# Altium footprint library SMD-Packages.PcbLib: 34 footprints (part 2 of 3)
Each footprint in its own frame and in the unit in brackets; x right, y up, seen from the top. Pads: shape width x height; smd on the part's side, far side on the other; paste and mask are expansions set on the pad; w line width, h text height; cw(c..) or ccw(c..) is an arc to the next point about the centre after c.
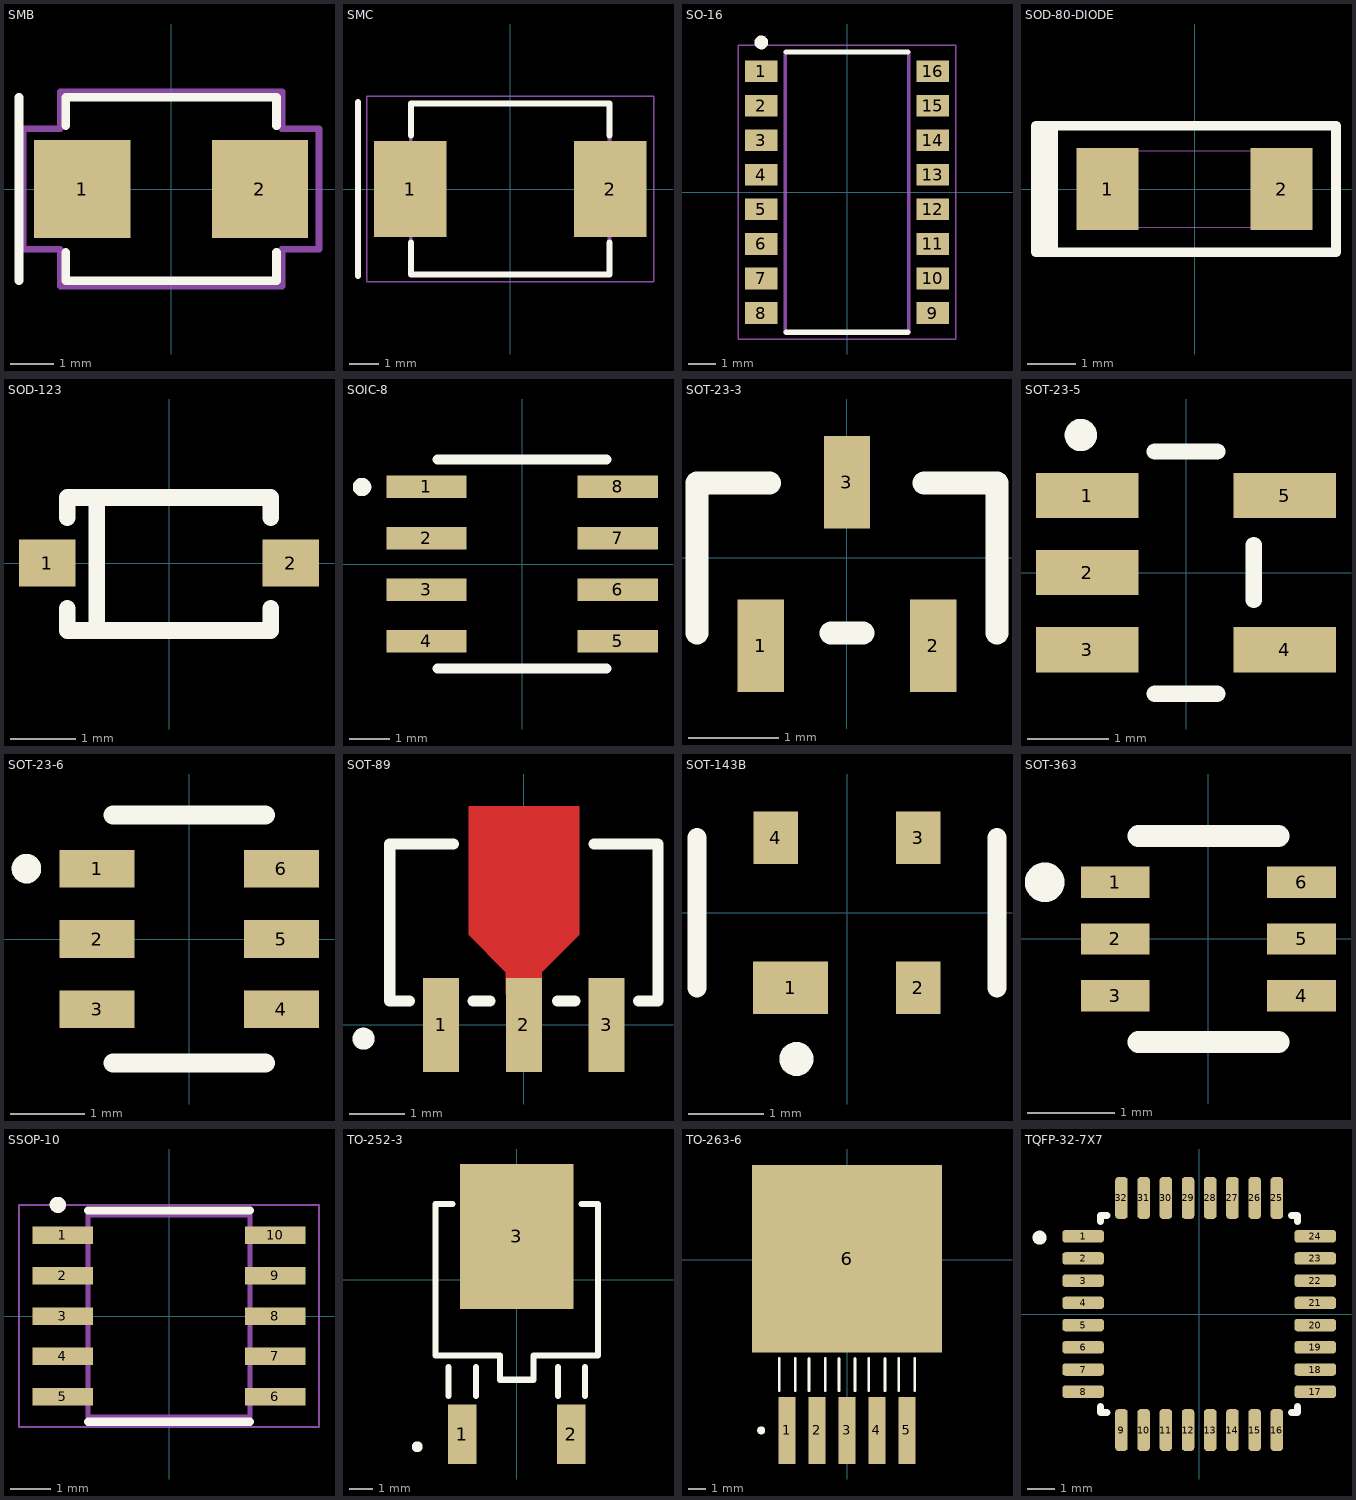
[diagram p1: the footprints below, top view; thin cyan lines are the x and y axes]

## SMB [mil]
pads (2):
  rect 87x89 smd paste+0: 1(-80.5,0) 2(80.5,0)
Top Overlay:
  lines w7.87: -137.8,-82.99 -137.8,82.99 ; -95.5,-57.6 -95.5,-83 95.5,-83 95.5,-57.6 ; -95.5,57.6 -95.5,83 95.5,83 95.5,57.6
Mechanical 15:
  lines w6: -134,-54.5 -134,54.5 -100.5,54.5 -100.5,88 100.5,88 100.5,54.5 134,54.5 134,-54.5 100.5,-54.5 100.5,-88 -100.5,-88 -100.5,-54.5 -134,-54.5
3D body "STPS2200U.STEP": height 104.33, standoff 0, extent -105.31,-71.36 105.31,71.36

## SMC [mm]
pads (2):
  rect 2.5x3.3 smd: 1(-3.45,0) 2(3.45,0)
Top Overlay:
  lines w0.2: -5.25,-3 -5.25,3 ; -3.425,-1.85 -3.425,-2.95 3.425,-2.95 3.425,-1.85 ; -3.425,1.85 -3.425,2.95 3.425,2.95 3.425,1.85
Mechanical 13:
  lines w0.127: -3.425,-2.95 -3.425,2.95 3.425,2.95 3.425,-2.95 -3.425,-2.95
Mechanical 15:
  lines w0.05: -4.95,-3.2 -4.95,3.2 4.95,3.2 4.95,-3.2 -4.95,-3.2
3D body "step_temp.STEP": height 2.5, standoff 0, extent -3.97,-2.953 3.97,2.953

## SO-16 [mm]
height 2.3
pads (16):
  rect 1.2x0.8 smd: 1(-3.15,4.445) 2(-3.15,3.175) 3(-3.15,1.905) 4(-3.15,0.635) 5(-3.15,-0.635) 6(-3.15,-1.905) 7(-3.15,-3.175) 8(-3.15,-4.445) 9(3.15,-4.445) 10(3.15,-3.175) 11(3.15,-1.905) 12(3.15,-0.635) 13(3.15,0.635) 14(3.15,1.905) 15(3.15,3.175) 16(3.15,4.445)
Top Overlay:
  circle w0.254: c-3.15,5.5 r0.127
  lines w0.2: -2.23,-5.15 2.23,-5.15 ; -2.23,5.15 2.23,5.15
Mechanical 13:
  circle w0.2: c-3.15,5.5 r0.1
  lines w0.127: -2.275,-5.15 2.275,-5.15 2.275,5.15 -2.275,5.15 -2.275,-5.15
Mechanical 15:
  lines w0.05: -4,-5.4 4,-5.4 4,5.4 -4,5.4 -4,-5.4
3D body "TLP293-4_TP_E.step": height 2.3, standoff 0, extent -3.5,-5.15 3.5,5.15

## SOD-80-DIODE [mil]
pads (2):
  rect 51x67 smd paste+0 mask+3.94: 1(-71.5,0) 2(71.5,0)
Top Overlay:
  rectangle: -129.92,-50.2 -112.2,49.21
  lines w7.87: -130.31,-51.97 -130.31,51.97 116.14,51.97 116.14,-51.97 -130.31,-51.97
Mechanical 13:
  lines w1: -73,-15.75 -57.25,-31.5 ; -73,15.75 -57.25,31.5 ; -73,-31.5 73,-31.5 73,31.5 -73,31.5 -73,-31.5
3D body "SOD-80 MiniMELF.stp": height 61.58, standoff -0.95, extent -72.83,-31.49 72.83,31.49

## SOD-123 [mil]
pads (2):
  rect 34x28 smd paste+0 mask+0: 1(-73,0) 2(73,0)
Top Overlay:
  lines w10: -61,-27.1 -61,-40.5 61,-40.5 61,-27.1 ; -61,27.1 -61,39.37 61,39.37 61,27.1 ; -43.31,-38.39 -43.31,37.4
3D body "1N4148W-MOD.STEP": height 59.92, standoff -0.44, extent -71.85,-30.51 71.85,30.51

## SOIC-8 [mil]
pads (8):
  rect 78x22 smd paste+0 mask+0: 1(-93,75) 2(-93,25) 3(-93,-25) 4(-93,-75) 5(93,-75) 6(93,-25) 7(93,25) 8(93,75)
Top Overlay:
  circle w10: c-155.51,74.8 r3.94
  lines w10: -82,-101.5 82,-101.5 ; -82,101.5 82,101.5
3D body "User Library-so8-3.step": height 66.93, standoff 0, extent -118.11,-96.46 118.11,96.46

## SOT-23-3 [mil]
pads (3):
  rect 20x40 smd mask+3.94: 1(-37.4,-38) 2(37.4,-38) 3(0,32.75)
Top Overlay:
  lines w10: -65,-32.5 -65,32.5 -33.5,32.5 ; -6.89,-32.5 6.89,-32.5 ; 33.46,32.48 64.96,32.48 ; 65,-32.5 65,32.5
3D body "LM4040DIM3-2.5_NOPB.step": height 44.09, standoff 0, extent -57.48,-46.65 57.48,46.65

## SOT-23-5 [mil]
pads (5):
  rect 50x22 smd mask+1.97: 1(-48,37.5) 2(-48,0) 3(-48,-37.5) 4(48,-37.5) 5(48,37.5)
Top Overlay:
  circle w7.87: c-51.18,66.93 r3.94
  lines w7.87: -15.17,-59 15.17,-59 ; -15.17,59 15.17,59 ; 33,-13.4 33,13.4
3D body "LM3671MFX-3.3_NOPB.step": height 57.09, standoff 0, extent -55.12,-57.09 55.12,57.09

## SOT-23-6 [mil]
pads (6):
  rect 40x20 smd paste+0: 1(-49,37.4) 2(-49,0) 3(-49,-37.4) 4(49,-37.4) 5(49,0) 6(49,37.4)
Top Overlay:
  circle w7.87: c-86.61,37.4 r3.94
  lines w10: -40.5,-66 40.5,-66 ; -40.5,66 40.5,66
3D body "SOT23-6.step": height 43.31, standoff 0, extent -49.21,-59.06 49.21,59.06

## SOT-89 [mm]
pads (3):
  rect 0.65x1.7 smd paste+0: 1(-1.495,0) 2(0,0) 3(1.495,0)
Top Layer:
  region: 0.325,0.555 -0.325,0.555 -0.325,0.956 -1,1.631 -1,3.956 1,3.956 1,1.631 0.325,0.956
Top Overlay:
  circle w0.2: c-2.9,-0.25 r0.1
  lines w0.2: -2.069,0.428 -2.426,0.428 -2.426,3.272 -1.273,3.272 ; -0.921,0.428 -0.612,0.428 ; 0.612,0.428 0.921,0.428 ; 1.273,3.272 2.426,3.272 2.426,0.428 2.069,0.428
Top Paste:
  region: 0.325,0.555 -0.325,0.555 -0.325,0.956 -1,1.631 -1,3.956 1,3.956 1,1.631 0.325,0.956
Top Solder:
  region: 0.279,0.555 -0.279,0.555 -0.279,0.91 -0.914,1.545 -0.914,3.806 0.914,3.806 0.914,1.545 0.279,0.91
3D body "SOT-89.step": height 1.35, standoff 0, extent -2.3,-0.65 2.3,3.6

## SOT-143B [mm]
pads (4):
  rect 1x0.7 smd: 1(-0.75,-1)
  rect 0.6x0.7 smd: 2(0.95,-1) 3(0.95,1) 4(-0.95,1)
Top Overlay:
  circle w0.254: c-0.675,-1.95 r0.1
  lines w0.254: -2,-1 -2,1 ; 2,-1 2,1
Top Paste:
  region: -0.7,0.701 -1.202,0.701 -1.202,1.3 -0.7,1.3
  region: 1.2,0.701 0.701,0.701 0.701,1.3 1.2,1.3
  region: 1.2,-1.301 0.701,-1.301 0.701,-0.7 1.2,-0.7
  region: -0.3,-1.302 -1.202,-1.302 -1.202,-0.7 -0.3,-0.7
3D body "PRTR5V0U2X_215.step": height 1.1, standoff 0, extent -1.45,-1.15 1.45,1.15

## SOT-363 [mil]
pads (6):
  rect 31x14 smd paste+0 mask+0: 1(-42,25.59) 2(-42,0) 3(-42,-25.59) 4(42,-25.59) 5(42,0) 6(42,25.59)
Top Overlay:
  circle w10: c-73.82,25.59 r3.94
  lines w10: -31.5,-46.5 31.5,-46.5 ; -31.5,46.5 31.5,46.5
3D body "UMH3NFHATN.step": height 39.37, standoff 0, extent -41.34,-39.37 41.34,39.37

## SSOP-10 [mm]
pads (10):
  rect 1.5x0.432 smd: 1(-2.625,2) 2(-2.625,1) 3(-2.625,0) 4(-2.625,-1) 5(-2.625,-2) 6(2.625,-2) 7(2.625,-1) 8(2.625,0) 9(2.625,1) 10(2.625,2)
Top Overlay:
  circle w0.2: c-2.75,2.75 r0.1
  lines w0.2: -2,-2.614 2,-2.614 ; -2,2.614 2,2.614
Mechanical 13:
  circle w0.2: c-2.75,2.75 r0.1
  lines w0.127: -2,-2.5 2,-2.5 2,2.5 -2,2.5 -2,-2.5
Mechanical 15:
  lines w0.05: -3.71,-2.75 3.71,-2.75 3.71,2.75 -3.71,2.75 -3.71,-2.75
3D body "User Library-ssop10.step": height 1.55, standoff -0.01, extent -3,-2.45 3,2.45

## TO-252-3 [mil]
pads (3):
  rect 47x98 smd paste+0 mask+0: 1(-90,-255) 2(90,-255)
  rect 187x239 smd paste+0 mask+0: 3(0,71.5)
Top Overlay:
  circle w10: c-164.37,-275.59 r3.94
  lines w10: -112.5,-192 -112.5,-144 ; -106.6,125 -134,125 -134,-125 -27.5,-125 -27.5,-165 27.5,-165 27.5,-125 134,-125 134,125 106.6,125 ; -67.5,-192 -67.5,-144 ; 67.5,-192 67.5,-144 ; 112.5,-192 112.5,-144
3D body "TO252-DPAK.STP": height 90.16, standoff -3.44, extent -129.53,-270.5 129.56,120.08

## TO-263-6 [mil]
pads (6):
  rect 38x150 smd paste+0 mask+0: 1(-133.86,-382) 2(-66.93,-382) 3(0,-382) 4(66.93,-382) 5(133.86,-382)
  rect 424x420 smd paste+0 mask+0: 6(0,2)
Top Overlay:
  circle w10: c-191.93,-381.89 r3.94
  lines w6: -151.86,-293 -151.86,-221.1 ; -115.86,-293 -115.86,-221.1 ; -84.93,-293 -84.93,-221.1 ; -48.93,-293 -48.93,-221.1 ; -18,-293 -18,-221.1 ; 18,-293 18,-221.1 ; 48.93,-293 48.93,-221.1 ; 84.93,-293 84.93,-221.1 ; 115.86,-293 115.86,-221.1 ; 151.86,-293 151.86,-221.1
3D body "TL2575-05IKTTR.step": height 183, standoff -6, extent -200,-380.93 200,184.07

## TQFP-32-7X7 [mm]
pads (32):
  rrect50% 1.5x0.45 smd: 1(-4.18,2.8) 2(-4.18,2) 3(-4.18,1.2) 4(-4.18,0.4) 5(-4.18,-0.4) 6(-4.18,-1.2) 7(-4.18,-2) 8(-4.18,-2.8) 17(4.18,-2.8) 18(4.18,-2) 19(4.18,-1.2) 20(4.18,-0.4) 21(4.18,0.4) 22(4.18,1.2) 23(4.18,2) 24(4.18,2.8)
  rrect50% 0.45x1.5 smd: 9(-2.8,-4.18) 10(-2,-4.18) 11(-1.2,-4.18) 12(-0.4,-4.18) 13(0.4,-4.18) 14(1.2,-4.18) 15(2,-4.18) 16(2.8,-4.18) 25(2.8,4.18) 26(2,4.18) 27(1.2,4.18) 28(0.4,4.18) 29(-0.4,4.18) 30(-1.2,4.18) 31(-2,4.18) 32(-2.8,4.18)
Top Overlay:
  circle w0.254: c-5.75,2.75 r0.127
  lines w0.254: -3.55,-3.325 -3.55,-3.55 -3.325,-3.55 ; -3.55,3.325 -3.55,3.55 -3.325,3.55 ; 3.325,-3.55 3.55,-3.55 3.55,-3.325 ; 3.325,3.55 3.55,3.55 3.55,3.325
3D body "step_temp.STEP": height 1.2, standoff 0, extent -4.5,-4.5 4.5,4.5